# Altium integrated library SOD-128.IntLib: 2 symbols
Pins are listed as number, name and electrical type; pins without a type are passive.

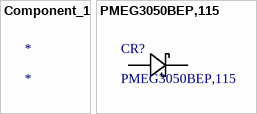
[diagram p0: symbols Component_1 to PMEG3050BEP,115]

## Component_1
designator *

## PMEG3050BEP,115
designator CR?
No Description Available; Vendor: Nexperia; Built_By: EMA_Cory; SourceLibrary: Nexperia_2020-02-26; Type: DEV; Datasheet: https://assets.nexperia.com/documents/data-sheet/PMEG3050BEP.pdf; Manufacturer_Part_Number: PMEG3050BEP,115; Copyright: Copyright (C) 2018 Accelerated Designs. All rights reserved; RefDes: RefDes
footprint CFP5_SOD128_NEX
pins: 1 11, 2 12